# Altium footprint library CINCH 30Pin CON.PcbLib: 1 footprints
Each footprint in its own frame and in the unit in brackets; x right, y up, seen from the top. Pads: shape width x height; smd on the part's side, far side on the other; paste and mask are expansions set on the pad; w line width, h text height; cw(c..) or ccw(c..) is an arc to the next point about the centre after c.
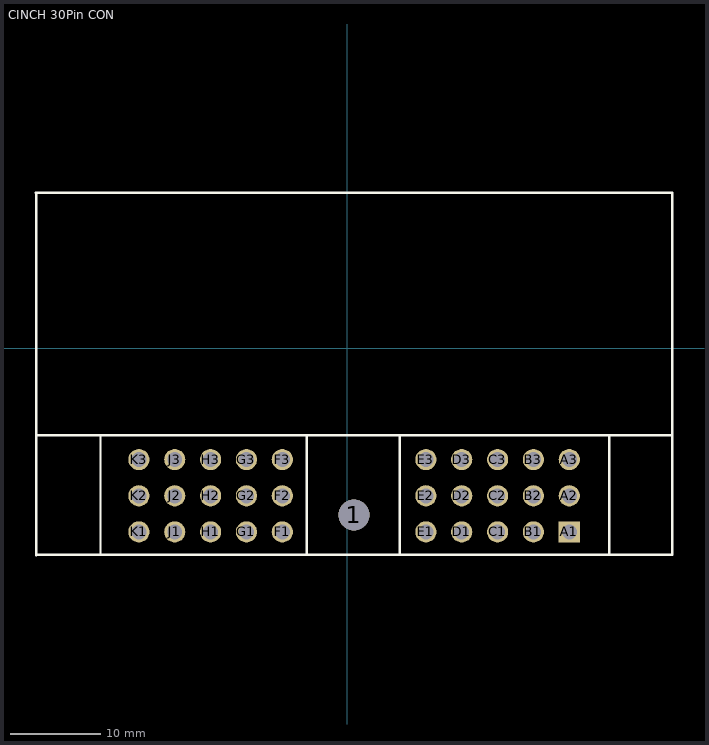
[diagram p0: the footprint, top view; thin cyan lines are the x and y axes]

## CINCH 30Pin CON [mil] "30 Pin Cinch Connector"
pads (31):
  round 135 hole 135: 1(27.9,-725)
  rect 92x92 hole 65: A1(964.6,-799.09)
  round 92 hole 65: A2(964.6,-642) A3(964.6,-484.91) B1(808.7,-799.09) B2(808.7,-642) B3(808.7,-484.91) C1(652.8,-799.09) C2(652.8,-642) C3(652.8,-484.91) D1(496.9,-799.09) D2(496.9,-642) D3(496.9,-484.91) E1(341,-799.09) E2(341,-642) E3(341,-484.91) F1(-283.2,-799.09) F2(-283.2,-642) F3(-283.2,-484.91) G1(-439.1,-799.09) G2(-439.1,-642) G3(-439.1,-484.91) H1(-595,-799.09) H2(-595,-642) H3(-595,-484.91) J1(-750.9,-799.09) J2(-750.9,-642) J3(-750.9,-484.91) K1(-906.8,-799.09) K2(-906.8,-642) K3(-906.8,-484.91)
Top Overlay:
  lines w10: -1353,-372 -1353,-900 -1352,-899 -1075,-899 -1074,-898 ; -1077,-379 -1074,-382 -1074,-898 ; -1075,-897 -1074,-898 ; -1070,-379 -177.1,-379 -177.1,-895 ; 227.9,-896 227.9,-379 ; 235,-379 1135,-379 1138,-382 1138,-898 -1074,-898 ; 1108,-898 1411,-898 ; 1412,-899 1412,-379 ; 1412,-379 -1353,-379 -1353,673 -1355,675 1412,675 1412,-379
3D body: height 1245.93, standoff -250.29, extent -1353.5,-901 1411.5,675